# Altium footprint library module.PcbLib: 2 footprints
Each footprint in its own frame and in the unit in brackets; x right, y up, seen from the top. Pads: shape width x height; smd on the part's side, far side on the other; paste and mask are expansions set on the pad; w line width, h text height; cw(c..) or ccw(c..) is an arc to the next point about the centre after c.
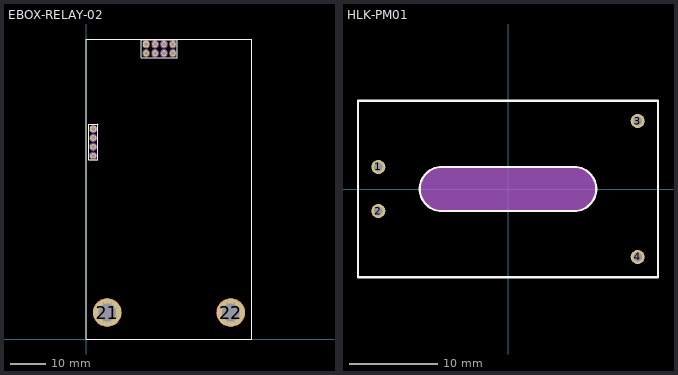
[diagram p0: the footprints below, top view; thin cyan lines are the x and y axes]

## EBOX-RELAY-02 [mm]
pads (14):
  rrect50% 1.6x1.8 hole 1: 1(17,83.5)
  oval 1.6x1.8 hole 1: 2(17,80.96) 3(19.54,83.5) 4(19.54,80.96) 5(22.08,83.5) 6(22.08,80.96) 7(24.62,83.5) 8(24.62,80.96)
  rrect50% 1.8x1.6 hole 1: 11(2,59.5)
  oval 1.8x1.6 hole 1: 12(2,56.96) 13(2,54.42) 14(2,51.88)
  round 8 hole 5: 21(6,7.5) 22(41,7.5)
via 39.9,4.85 diameter 0.66 hole 0.33
via 43.65,6.4 diameter 0.66 hole 0.33
via 42.1,10.15 diameter 0.66 hole 0.33
via 38.35,8.6 diameter 0.66 hole 0.33
via 43.65,8.6 diameter 0.66 hole 0.33
via 39.9,10.15 diameter 0.66 hole 0.33
via 38.35,6.4 diameter 0.66 hole 0.33
via 42.1,4.85 diameter 0.66 hole 0.33
via 4.9,4.85 diameter 0.66 hole 0.33
via 8.65,6.4 diameter 0.66 hole 0.33
via 7.1,10.15 diameter 0.66 hole 0.33
via 3.35,8.6 diameter 0.66 hole 0.33
via 8.65,8.6 diameter 0.66 hole 0.33
via 4.9,10.15 diameter 0.66 hole 0.33
via 3.35,6.4 diameter 0.66 hole 0.33
via 7.1,4.85 diameter 0.66 hole 0.33
Top Layer:
  pour cut-out: 37,7.5 37,7.762 37.068,8.282 37.204,8.789 37.405,9.273 37.667,9.727 37.986,10.143 38.357,10.514 38.773,10.833 39.227,11.095 39.711,11.296 40.218,11.431 40.738,11.5 41,11.5 41.262,11.5 41.782,11.432 42.288,11.296 42.773,11.095 43.227,10.833 43.643,10.514 44.014,10.143 44.333,9.727 44.595,9.273 44.796,8.788 44.932,8.282 45,7.762 45,7.5 45,7.238 44.932,6.718 44.796,6.211 44.595,5.727 44.333,5.273 44.014,4.857 43.643,4.486 43.227,4.167 42.773,3.905 42.289,3.704 41.782,3.568 41.262,3.5 41,3.5 40.738,3.5 40.218,3.568 39.712,3.704 39.227,3.905 38.773,4.167 38.357,4.486 37.986,4.857 37.667,5.273 37.405,5.727 37.204,6.211 37.068,6.718 37,7.238
  region: 40.9,5.25 40.675,5.275 40.425,5.325 40.2,5.4 40.025,5.475 39.875,5.55 39.75,5.625 39.625,5.725 39.5,5.825 38.575,4.9 38.775,4.725 38.975,4.575 39.175,4.45 39.4,4.325 39.625,4.225 39.825,4.15 40.05,4.075 40.275,4.025 40.4,4 40.55,3.975 40.9,3.95
  region: 41.1,5.25 41.325,5.275 41.575,5.325 41.8,5.4 41.975,5.475 42.125,5.55 42.25,5.625 42.375,5.725 42.5,5.825 43.425,4.9 43.225,4.725 43.025,4.575 42.825,4.45 42.6,4.325 42.375,4.225 42.175,4.15 41.95,4.075 41.725,4.025 41.6,4 41.45,3.975 41.1,3.95
  region: 43.25,7.6 43.225,7.825 43.175,8.075 43.1,8.3 43.025,8.475 42.95,8.625 42.875,8.75 42.775,8.875 42.675,9 43.6,9.925 43.775,9.725 43.925,9.525 44.05,9.325 44.175,9.1 44.275,8.875 44.35,8.675 44.425,8.45 44.475,8.225 44.5,8.1 44.525,7.95 44.55,7.6
  region: 43.25,7.4 43.225,7.175 43.175,6.925 43.1,6.7 43.025,6.525 42.95,6.375 42.875,6.25 42.775,6.125 42.675,6 43.6,5.075 43.775,5.275 43.925,5.475 44.05,5.675 44.175,5.9 44.275,6.125 44.35,6.325 44.425,6.55 44.475,6.775 44.5,6.9 44.525,7.05 44.55,7.4
  region: 41.1,9.75 41.325,9.725 41.575,9.675 41.8,9.6 41.975,9.525 42.125,9.45 42.25,9.375 42.375,9.275 42.5,9.175 43.425,10.1 43.225,10.275 43.025,10.425 42.825,10.55 42.6,10.675 42.375,10.775 42.175,10.85 41.95,10.925 41.725,10.975 41.6,11 41.45,11.025 41.1,11.05
  region: 40.9,9.75 40.675,9.725 40.425,9.675 40.2,9.6 40.025,9.525 39.875,9.45 39.75,9.375 39.625,9.275 39.5,9.175 38.575,10.1 38.775,10.275 38.975,10.425 39.175,10.55 39.4,10.675 39.625,10.775 39.825,10.85 40.05,10.925 40.275,10.975 40.4,11 40.55,11.025 40.9,11.05
  region: 38.75,7.4 38.775,7.175 38.825,6.925 38.9,6.7 38.975,6.525 39.05,6.375 39.125,6.25 39.225,6.125 39.325,6 38.4,5.075 38.225,5.275 38.075,5.475 37.95,5.675 37.825,5.9 37.725,6.125 37.65,6.325 37.575,6.55 37.525,6.775 37.5,6.9 37.475,7.05 37.45,7.4
  region: 38.75,7.6 38.775,7.825 38.825,8.075 38.9,8.3 38.975,8.475 39.05,8.625 39.125,8.75 39.225,8.875 39.325,9 38.4,9.925 38.225,9.725 38.075,9.525 37.95,9.325 37.825,9.1 37.725,8.875 37.65,8.675 37.575,8.45 37.525,8.225 37.5,8.1 37.475,7.95 37.45,7.6
  pour cut-out: 2,7.5 2,7.762 2.068,8.282 2.204,8.789 2.405,9.273 2.667,9.727 2.986,10.143 3.357,10.514 3.773,10.833 4.227,11.095 4.711,11.296 5.218,11.431 5.738,11.5 6,11.5 6.262,11.5 6.782,11.432 7.288,11.296 7.773,11.095 8.227,10.833 8.643,10.514 9.014,10.143 9.333,9.727 9.595,9.273 9.796,8.788 9.932,8.282 10,7.762 10,7.5 10,7.238 9.932,6.718 9.796,6.211 9.595,5.727 9.333,5.273 9.014,4.857 8.643,4.486 8.227,4.167 7.773,3.905 7.289,3.704 6.782,3.568 6.262,3.5 6,3.5 5.738,3.5 5.218,3.568 4.712,3.704 4.227,3.905 3.773,4.167 3.357,4.486 2.986,4.857 2.667,5.273 2.405,5.727 2.204,6.211 2.068,6.718 2,7.238
  region: 5.9,5.25 5.675,5.275 5.425,5.325 5.2,5.4 5.025,5.475 4.875,5.55 4.75,5.625 4.625,5.725 4.5,5.825 3.575,4.9 3.775,4.725 3.975,4.575 4.175,4.45 4.4,4.325 4.625,4.225 4.825,4.15 5.05,4.075 5.275,4.025 5.4,4 5.55,3.975 5.9,3.95
  region: 6.1,5.25 6.325,5.275 6.575,5.325 6.8,5.4 6.975,5.475 7.125,5.55 7.25,5.625 7.375,5.725 7.5,5.825 8.425,4.9 8.225,4.725 8.025,4.575 7.825,4.45 7.6,4.325 7.375,4.225 7.175,4.15 6.95,4.075 6.725,4.025 6.6,4 6.45,3.975 6.1,3.95
  region: 8.25,7.6 8.225,7.825 8.175,8.075 8.1,8.3 8.025,8.475 7.95,8.625 7.875,8.75 7.775,8.875 7.675,9 8.6,9.925 8.775,9.725 8.925,9.525 9.05,9.325 9.175,9.1 9.275,8.875 9.35,8.675 9.425,8.45 9.475,8.225 9.5,8.1 9.525,7.95 9.55,7.6
  region: 8.25,7.4 8.225,7.175 8.175,6.925 8.1,6.7 8.025,6.525 7.95,6.375 7.875,6.25 7.775,6.125 7.675,6 8.6,5.075 8.775,5.275 8.925,5.475 9.05,5.675 9.175,5.9 9.275,6.125 9.35,6.325 9.425,6.55 9.475,6.775 9.5,6.9 9.525,7.05 9.55,7.4
  region: 6.1,9.75 6.325,9.725 6.575,9.675 6.8,9.6 6.975,9.525 7.125,9.45 7.25,9.375 7.375,9.275 7.5,9.175 8.425,10.1 8.225,10.275 8.025,10.425 7.825,10.55 7.6,10.675 7.375,10.775 7.175,10.85 6.95,10.925 6.725,10.975 6.6,11 6.45,11.025 6.1,11.05
  region: 5.9,9.75 5.675,9.725 5.425,9.675 5.2,9.6 5.025,9.525 4.875,9.45 4.75,9.375 4.625,9.275 4.5,9.175 3.575,10.1 3.775,10.275 3.975,10.425 4.175,10.55 4.4,10.675 4.625,10.775 4.825,10.85 5.05,10.925 5.275,10.975 5.4,11 5.55,11.025 5.9,11.05
  region: 3.75,7.4 3.775,7.175 3.825,6.925 3.9,6.7 3.975,6.525 4.05,6.375 4.125,6.25 4.225,6.125 4.325,6 3.4,5.075 3.225,5.275 3.075,5.475 2.95,5.675 2.825,5.9 2.725,6.125 2.65,6.325 2.575,6.55 2.525,6.775 2.5,6.9 2.475,7.05 2.45,7.4
  region: 3.75,7.6 3.775,7.825 3.825,8.075 3.9,8.3 3.975,8.475 4.05,8.625 4.125,8.75 4.225,8.875 4.325,9 3.4,9.925 3.225,9.725 3.075,9.525 2.95,9.325 2.825,9.1 2.725,8.875 2.65,8.675 2.575,8.45 2.525,8.225 2.5,8.1 2.475,7.95 2.45,7.6
Bottom Layer:
  pour cut-out: 37,7.5 37,7.762 37.068,8.282 37.204,8.789 37.405,9.273 37.667,9.727 37.986,10.143 38.357,10.514 38.773,10.833 39.227,11.095 39.711,11.296 40.218,11.431 40.738,11.5 41,11.5 41.262,11.5 41.782,11.432 42.288,11.296 42.773,11.095 43.227,10.833 43.643,10.514 44.014,10.143 44.333,9.727 44.595,9.273 44.796,8.788 44.932,8.282 45,7.762 45,7.5 45,7.238 44.932,6.718 44.796,6.211 44.595,5.727 44.333,5.273 44.014,4.857 43.643,4.486 43.227,4.167 42.773,3.905 42.289,3.704 41.782,3.568 41.262,3.5 41,3.5 40.738,3.5 40.218,3.568 39.712,3.704 39.227,3.905 38.773,4.167 38.357,4.486 37.986,4.857 37.667,5.273 37.405,5.727 37.204,6.211 37.068,6.718 37,7.238
  pour cut-out: 2,7.5 2,7.762 2.068,8.282 2.204,8.789 2.405,9.273 2.667,9.727 2.986,10.143 3.357,10.514 3.773,10.833 4.227,11.095 4.711,11.296 5.218,11.431 5.738,11.5 6,11.5 6.262,11.5 6.782,11.432 7.288,11.296 7.773,11.095 8.227,10.833 8.643,10.514 9.014,10.143 9.333,9.727 9.595,9.273 9.796,8.788 9.932,8.282 10,7.762 10,7.5 10,7.238 9.932,6.718 9.796,6.211 9.595,5.727 9.333,5.273 9.014,4.857 8.643,4.486 8.227,4.167 7.773,3.905 7.289,3.704 6.782,3.568 6.262,3.5 6,3.5 5.738,3.5 5.218,3.568 4.712,3.704 4.227,3.905 3.773,4.167 3.357,4.486 2.986,4.857 2.667,5.273 2.405,5.727 2.204,6.211 2.068,6.718 2,7.238
Top Overlay:
  lines w0.2: 0,0 47,0 47,85 0,85 0,0 ; 15.603,79.69 15.603,84.77 25.81,84.77 25.81,79.69 15.603,79.69
  lines w0.203: 3.397,61.024 3.27,60.897 ; 15.476,84.897 15.603,84.77 ; 3.27,60.897 3.27,50.737 0.73,50.737 0.73,60.897 3.27,60.897
Bottom Overlay:
  lines w0.203: 15.603,79.69 25.763,79.69 25.763,84.77 15.603,84.77 15.603,79.69
Top Solder:
  region: 44.6,7.483 44.6,7.248 44.539,6.783 44.417,6.329 44.237,5.895 44.003,5.488 43.717,5.116 43.385,4.783 43.012,4.497 42.605,4.263 42.171,4.083 41.717,3.961 41.252,3.9 41.017,3.9 40.78,3.9 40.31,3.962 39.852,4.084 39.414,4.266 39.003,4.503 38.627,4.791 38.292,5.126 38.003,5.502 37.766,5.913 37.585,6.351 37.462,6.809 37.4,7.279 37.4,7.516 37.4,7.752 37.462,8.219 37.584,8.674 37.765,9.109 38.001,9.517 38.289,9.89 38.623,10.222 38.997,10.508 39.406,10.743 39.842,10.921 40.298,11.042 40.765,11.101 41.001,11.1 41.237,11.099 41.706,11.035 42.162,10.911 42.598,10.728 43.006,10.491 43.38,10.202 43.714,9.867 44.001,9.491 44.236,9.082 44.417,8.645 44.539,8.188 44.6,7.719
  region: 9.6,7.483 9.6,7.248 9.539,6.783 9.417,6.329 9.237,5.895 9.003,5.488 8.717,5.116 8.385,4.783 8.012,4.497 7.605,4.263 7.171,4.083 6.717,3.961 6.252,3.9 6.017,3.9 5.78,3.9 5.31,3.962 4.852,4.084 4.414,4.266 4.003,4.503 3.627,4.791 3.292,5.126 3.003,5.502 2.766,5.913 2.585,6.351 2.462,6.809 2.4,7.279 2.4,7.516 2.4,7.752 2.462,8.219 2.584,8.674 2.765,9.109 3.001,9.517 3.289,9.89 3.623,10.222 3.997,10.508 4.406,10.743 4.842,10.921 5.298,11.042 5.765,11.101 6.001,11.1 6.237,11.099 6.706,11.035 7.162,10.911 7.598,10.728 8.006,10.491 8.38,10.202 8.714,9.867 9.001,9.491 9.236,9.082 9.417,8.645 9.539,8.188 9.6,7.719
Mechanical 1:
  circle w0.254: c17,83.5 r1
  circle w0.254: c17,80.96 r1
  circle w0.254: c24.62,80.96 r1
  circle w0.254: c22.08,80.96 r1
  circle w0.254: c19.54,80.96 r1
  circle w0.254: c19.54,83.5 r1
  circle w0.254: c22.08,83.5 r1
  circle w0.254: c24.62,83.5 r1
  circle w0.254: c41,7.5 r2
  circle w0.254: c6,7.5 r2
  circle w0.254: c2,59.5 r1
  circle w0.254: c2,56.96 r1
  circle w0.254: c2,54.42 r1
  circle w0.254: c2,51.88 r1
  lines w0.203: 3.397,61.024 3.27,60.897 ; 3.27,60.897 0.73,60.897 0.73,50.737 3.27,50.737 3.27,60.897
3D body "eBox_relay_2.step": height 38.6, standoff 2.03, extent 0,-0.25 47,85
3D body: height 8, standoff 0, extent 15.81,79.73 25.81,84.73
3D body: height 1, standoff 0, extent 2,3.5 10,11.5
3D body: height 1, standoff 0, extent 37,3.5 45,11.5
3D body: height 11, standoff 1, extent 3.085,4.951 8.915,10.049
3D body: height 11, standoff 1, extent 38.085,4.951 43.915,10.049
3D body: height 8, standoff 0, extent 0.73,50.737 3.27,60.897
3D body: height 0, standoff -6, extent 39.5,6 42.5,9
3D body: height 0, standoff -6, extent 4.5,6 7.5,9

## HLK-PM01 [mm]
pads (4):
  round 1.6 hole 1: 1(-14.7,2.5) 2(-14.7,-2.5) 3(14.7,7.7) 4(14.7,-7.7)
Top Overlay:
  lines w0.254: -17,-10 17,-10 17,10 -17,10 -17,-10 ; -7.5,-2.5 cw(c-7.5,0) -7.5,2.5 7.5,2.5 cw(c7.5,0) 7.5,-2.5 -7.5,-2.5
Mechanical 1:
  region: -7.5,2.5 7.5,2.5 7.746,2.5 8.229,2.404 8.684,2.215 9.094,1.942 9.442,1.594 9.715,1.184 9.904,0.729 10,0.246 10,0 10,-0.246 9.904,-0.729 9.715,-1.184 9.442,-1.594 9.094,-1.942 8.684,-2.215 8.229,-2.404 7.746,-2.5 7.5,-2.5 -7.5,-2.5 -7.746,-2.5 -8.229,-2.404 -8.684,-2.215 -9.094,-1.942 -9.442,-1.594 -9.715,-1.184 -9.904,-0.729 -10,-0.246 -10,0 -10,0.246 -9.904,0.729 -9.715,1.184 -9.442,1.594 -9.094,1.942 -8.684,2.215 -8.229,2.404 -7.746,2.5
  text "+Vo" at 10.5,-8.5 h1.8
  text "-Vo" at 10.5,7 h1.8
  text "AC" at -13,-3 h1.8
  text "AC" at -13,2 h1.8
3D body "HLK-PM01.step": height 15.1, standoff -5, extent -17,-10.1 17,10.1